# Altium schematic symbol library Schlib1.SchLib: 13 symbols
Pins are listed as number, name and electrical type; pins without a type are passive.

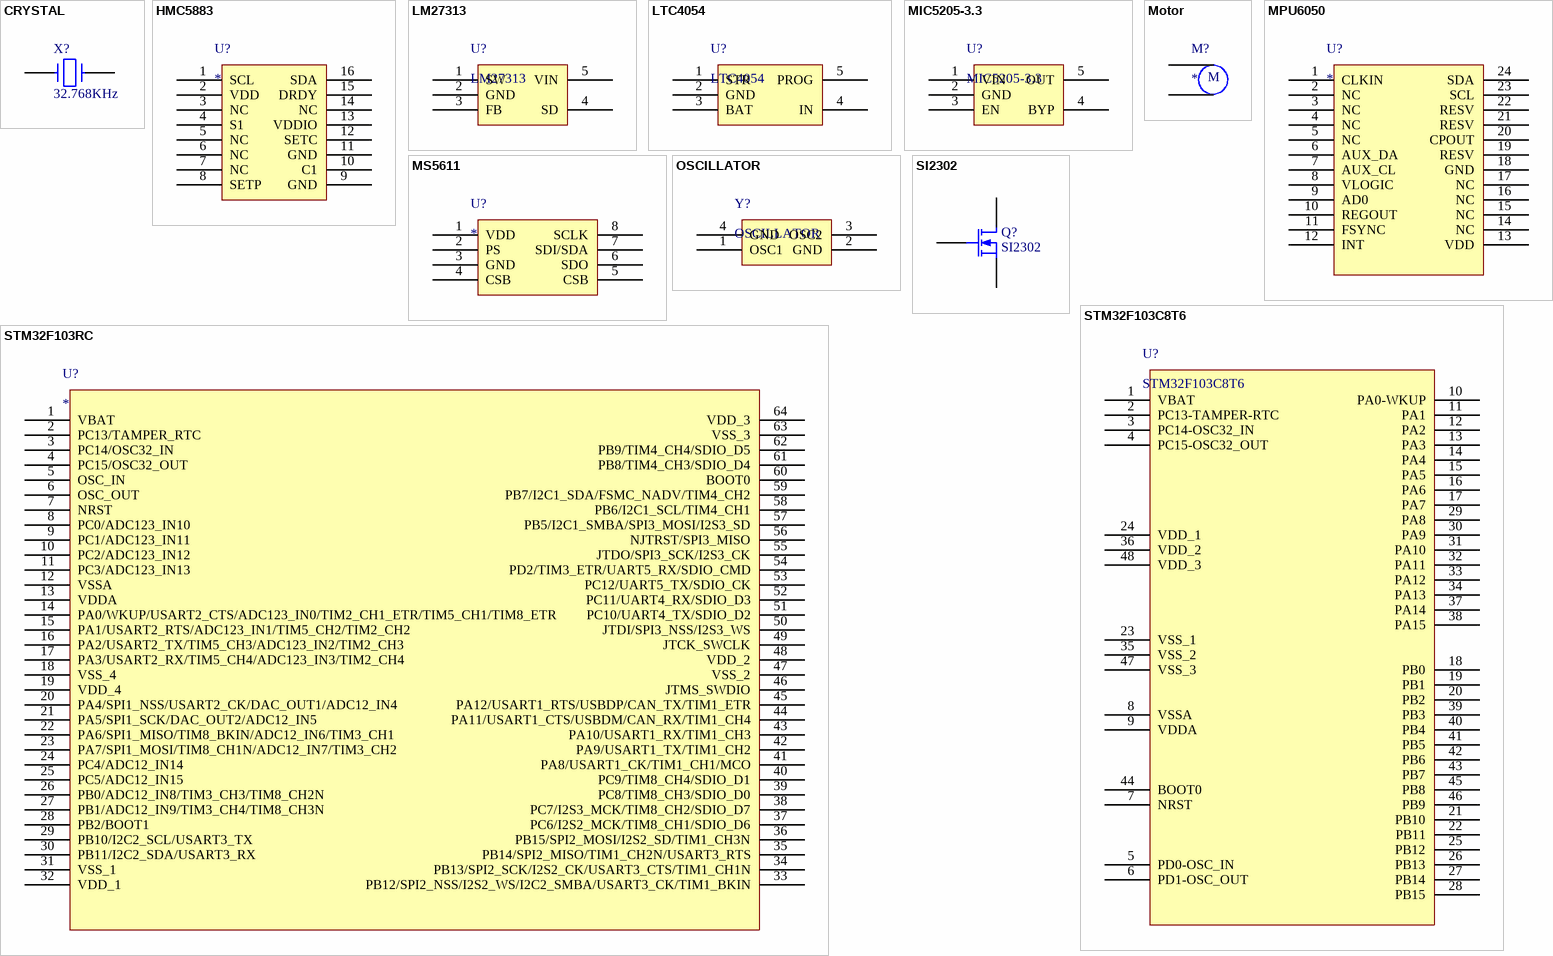
[diagram p0: symbols CRYSTAL to STM32F103RC]

## CRYSTAL
designator X?, comment 32.768KHz
Crystal
footprint 2X5MM
footprint XTAL_socket
pins: 1, 2
2 alternate drawings of the same symbol

## HMC5883
designator U?
pins: 1 SCL, 2 VDD, 3 NC, 4 S1, 5 NC, 6 NC, 7 NC, 8 SETP, 9 GND, 10 C1, 11 GND, 12 SETC, 13 VDDIO, 14 NC, 15 DRDY, 16 SDA

## LM27313
designator U?
pins: 1 SW, 2 GND, 3 FB, 4 SD, 5 VIN

## LTC4054
designator U?
pins: 1 STR, 2 GND, 3 BAT, 4 IN, 5 PROG

## MIC5205-3.3
designator U?
pins: 1 VIN, 2 GND, 3 EN, 4 BYP, 5 OUT

## Motor
designator M?
pins: 1, 2
text: M

## MPU6050
designator U?
pins: 1 CLKIN, 2 NC, 3 NC, 4 NC, 5 NC, 6 AUX_DA, 7 AUX_CL, 8 VLOGIC, 9 AD0, 10 REGOUT, 11 FSYNC, 12 INT, 13 VDD, 14 NC, 15 NC, 16 NC, 17 NC, 18 GND, 19 RESV, 20 CPOUT, 21 RESV, 22 RESV, 23 SCL, 24 SDA

## MS5611
designator U?
pins: 1 VDD, 2 PS, 3 GND, 4 CSB, 5 CSB, 6 SDO, 7 SDI/SDA, 8 SCLK

## OSCILLATOR
designator Y?
footprint OSCILLATOR-SMD3225
pins: 1 OSC1, 2 GND, 3 OSC2, 4 GND

## SI2302
designator Q?
N-Channel MOSFET; Published: 8-Jun-2000; LatestRevisionDate: 17-Jul-2002; LatestRevisionNote: Re-released for DXP Platform.; PackageVersion: 1995/1996; PackageReference: E3; Publisher: Altium Limited; PackageDescription: TO, Flat Index; 3 In-Line, Axial Leads; Body Dia. 4.6mm; Lead Dia. 0.5 mm (max)
footprint SOT-23
simulation model NMOS (MOSFET-N)
pins: 1 G, 2 S, 3 D

## STM32F103C8T6
designator U?
pins: 1 VBAT, 2 PC13-TAMPER-RTC, 3 PC14-OSC32_IN, 4 PC15-OSC32_OUT, 5 PD0-OSC_IN, 6 PD1-OSC_OUT, 7 NRST, 8 VSSA, 9 VDDA, 10 PA0-WKUP, 11 PA1, 12 PA2, 13 PA3, 14 PA4, 15 PA5, 16 PA6, 17 PA7, 18 PB0, 19 PB1, 20 PB2, 21 PB10, 22 PB11, 23 VSS_1, 24 VDD_1, 25 PB12, 26 PB13, 27 PB14, 28 PB15, 29 PA8, 30 PA9, 31 PA10, 32 PA11, 33 PA12, 34 PA13, 35 VSS_2, 36 VDD_2, 37 PA14, 38 PA15, 39 PB3, 40 PB4, 41 PB5, 42 PB6, 43 PB7, 44 BOOT0, 45 PB8, 46 PB9, 47 VSS_3, 48 VDD_3

## STM32F103RC
designator U?
pins: 1 VBAT, 2 PC13/TAMPER_RTC, 3 PC14/OSC32_IN, 4 PC15/OSC32_OUT, 5 OSC_IN, 6 OSC_OUT, 7 NRST, 8 PC0/ADC123_IN10, 9 PC1/ADC123_IN11, 10 PC2/ADC123_IN12, 11 PC3/ADC123_IN13, 12 VSSA, 13 VDDA, 14 PA0/WKUP/USART2_CTS/ADC123_IN0/TIM2_CH1_ETR/TIM5_CH1/TIM8_ETR, 15 PA1/USART2_RTS/ADC123_IN1/TIM5_CH2/TIM2_CH2, 16 PA2/USART2_TX/TIM5_CH3/ADC123_IN2/TIM2_CH3, 17 PA3/USART2_RX/TIM5_CH4/ADC123_IN3/TIM2_CH4, 18 VSS_4, 19 VDD_4, 20 PA4/SPI1_NSS/USART2_CK/DAC_OUT1/ADC12_IN4, 21 PA5/SPI1_SCK/DAC_OUT2/ADC12_IN5, 22 PA6/SPI1_MISO/TIM8_BKIN/ADC12_IN6/TIM3_CH1, 23 PA7/SPI1_MOSI/TIM8_CH1N/ADC12_IN7/TIM3_CH2, 24 PC4/ADC12_IN14, 25 PC5/ADC12_IN15, 26 PB0/ADC12_IN8/TIM3_CH3/TIM8_CH2N, 27 PB1/ADC12_IN9/TIM3_CH4/TIM8_CH3N, 28 PB2/BOOT1, 29 PB10/I2C2_SCL/USART3_TX, 30 PB11/I2C2_SDA/USART3_RX, 31 VSS_1, 32 VDD_1, 33 PB12/SPI2_NSS/I2S2_WS/I2C2_SMBA/USART3_CK/TIM1_BKIN, 34 PB13/SPI2_SCK/I2S2_CK/USART3_CTS/TIM1_CH1N, 35 PB14/SPI2_MISO/TIM1_CH2N/USART3_RTS, 36 PB15/SPI2_MOSI/I2S2_SD/TIM1_CH3N, 37 PC6/I2S2_MCK/TIM8_CH1/SDIO_D6, 38 PC7/I2S3_MCK/TIM8_CH2/SDIO_D7, 39 PC8/TIM8_CH3/SDIO_D0, 40 PC9/TIM8_CH4/SDIO_D1, 41 PA8/USART1_CK/TIM1_CH1/MCO, 42 PA9/USART1_TX/TIM1_CH2, 43 PA10/USART1_RX/TIM1_CH3, 44 PA11/USART1_CTS/USBDM/CAN_RX/TIM1_CH4, 45 PA12/USART1_RTS/USBDP/CAN_TX/TIM1_ETR, 46 JTMS_SWDIO, 47 VSS_2, 48 VDD_2, 49 JTCK_SWCLK, 50 JTDI/SPI3_NSS/I2S3_WS, 51 PC10/UART4_TX/SDIO_D2, 52 PC11/UART4_RX/SDIO_D3, 53 PC12/UART5_TX/SDIO_CK, 54 PD2/TIM3_ETR/UART5_RX/SDIO_CMD, 55 JTDO/SPI3_SCK/I2S3_CK, 56 NJTRST/SPI3_MISO, 57 PB5/I2C1_SMBA/SPI3_MOSI/I2S3_SD, 58 PB6/I2C1_SCL/TIM4_CH1, 59 PB7/I2C1_SDA/FSMC_NADV/TIM4_CH2, 60 BOOT0, 61 PB8/TIM4_CH3/SDIO_D4, 62 PB9/TIM4_CH4/SDIO_D5, 63 VSS_3, 64 VDD_3

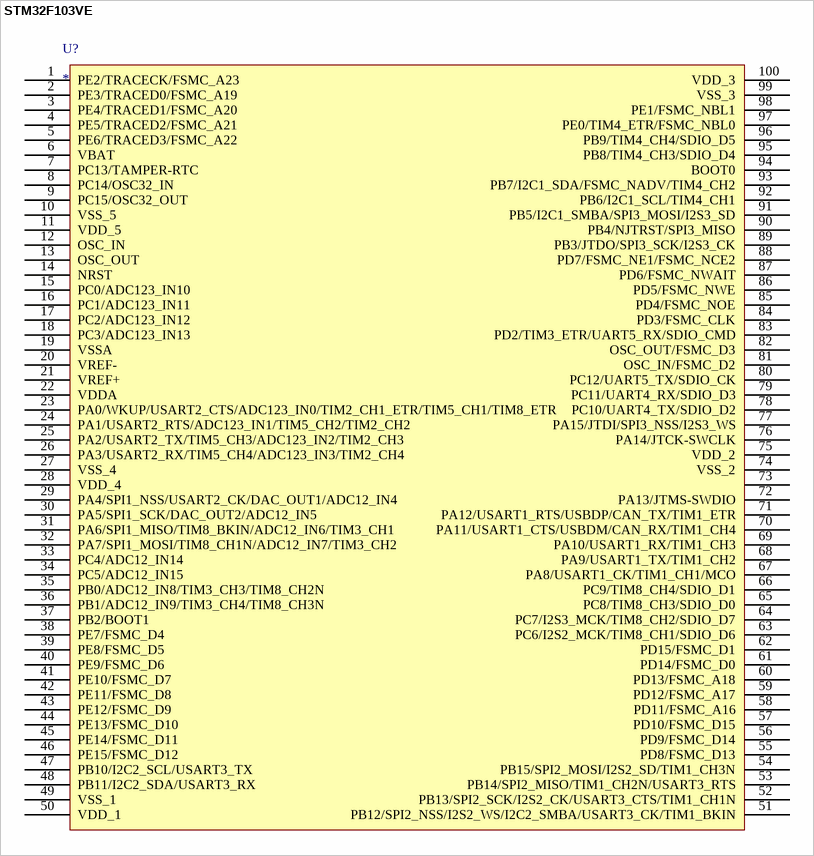
[diagram p1: symbol STM32F103VE]

## STM32F103VE
designator U?
pins: 1 PE2/TRACECK/FSMC_A23, 2 PE3/TRACED0/FSMC_A19, 3 PE4/TRACED1/FSMC_A20, 4 PE5/TRACED2/FSMC_A21, 5 PE6/TRACED3/FSMC_A22, 6 VBAT, 7 PC13/TAMPER-RTC, 8 PC14/OSC32_IN, 9 PC15/OSC32_OUT, 10 VSS_5, 11 VDD_5, 12 OSC_IN, 13 OSC_OUT, 14 NRST, 15 PC0/ADC123_IN10, 16 PC1/ADC123_IN11, 17 PC2/ADC123_IN12, 18 PC3/ADC123_IN13, 19 VSSA, 20 VREF-, 21 VREF+, 22 VDDA, 23 PA0/WKUP/USART2_CTS/ADC123_IN0/TIM2_CH1_ETR/TIM5_CH1/TIM8_ETR, 24 PA1/USART2_RTS/ADC123_IN1/TIM5_CH2/TIM2_CH2, 25 PA2/USART2_TX/TIM5_CH3/ADC123_IN2/TIM2_CH3, 26 PA3/USART2_RX/TIM5_CH4/ADC123_IN3/TIM2_CH4, 27 VSS_4, 28 VDD_4, 29 PA4/SPI1_NSS/USART2_CK/DAC_OUT1/ADC12_IN4, 30 PA5/SPI1_SCK/DAC_OUT2/ADC12_IN5, 31 PA6/SPI1_MISO/TIM8_BKIN/ADC12_IN6/TIM3_CH1, 32 PA7/SPI1_MOSI/TIM8_CH1N/ADC12_IN7/TIM3_CH2, 33 PC4/ADC12_IN14, 34 PC5/ADC12_IN15, 35 PB0/ADC12_IN8/TIM3_CH3/TIM8_CH2N, 36 PB1/ADC12_IN9/TIM3_CH4/TIM8_CH3N, 37 PB2/BOOT1, 38 PE7/FSMC_D4, 39 PE8/FSMC_D5, 40 PE9/FSMC_D6, 41 PE10/FSMC_D7, 42 PE11/FSMC_D8, 43 PE12/FSMC_D9, 44 PE13/FSMC_D10, 45 PE14/FSMC_D11, 46 PE15/FSMC_D12, 47 PB10/I2C2_SCL/USART3_TX, 48 PB11/I2C2_SDA/USART3_RX, 49 VSS_1, 50 VDD_1, 51 PB12/SPI2_NSS/I2S2_WS/I2C2_SMBA/USART3_CK/TIM1_BKIN, 52 PB13/SPI2_SCK/I2S2_CK/USART3_CTS/TIM1_CH1N, 53 PB14/SPI2_MISO/TIM1_CH2N/USART3_RTS, 54 PB15/SPI2_MOSI/I2S2_SD/TIM1_CH3N, 55 PD8/FSMC_D13, 56 PD9/FSMC_D14, 57 PD10/FSMC_D15, 58 PD11/FSMC_A16, 59 PD12/FSMC_A17, 60 PD13/FSMC_A18, 61 PD14/FSMC_D0, 62 PD15/FSMC_D1, 63 PC6/I2S2_MCK/TIM8_CH1/SDIO_D6, 64 PC7/I2S3_MCK/TIM8_CH2/SDIO_D7, 65 PC8/TIM8_CH3/SDIO_D0, 66 PC9/TIM8_CH4/SDIO_D1, 67 PA8/USART1_CK/TIM1_CH1/MCO, 68 PA9/USART1_TX/TIM1_CH2, 69 PA10/USART1_RX/TIM1_CH3, 70 PA11/USART1_CTS/USBDM/CAN_RX/TIM1_CH4, 71 PA12/USART1_RTS/USBDP/CAN_TX/TIM1_ETR, 72 PA13/JTMS-SWDIO, 73, 74 VSS_2, 75 VDD_2, 76 PA14/JTCK-SWCLK, 77 PA15/JTDI/SPI3_NSS/I2S3_WS, 78 PC10/UART4_TX/SDIO_D2, 79 PC11/UART4_RX/SDIO_D3, 80 PC12/UART5_TX/SDIO_CK, 81 OSC_IN/FSMC_D2, 82 OSC_OUT/FSMC_D3, 83 PD2/TIM3_ETR/UART5_RX/SDIO_CMD, 84 PD3/FSMC_CLK, 85 PD4/FSMC_NOE, 86 PD5/FSMC_NWE, 87 PD6/FSMC_NWAIT, 88 PD7/FSMC_NE1/FSMC_NCE2, 89 PB3/JTDO/SPI3_SCK/I2S3_CK, 90 PB4/NJTRST/SPI3_MISO, 91 PB5/I2C1_SMBA/SPI3_MOSI/I2S3_SD, 92 PB6/I2C1_SCL/TIM4_CH1, 93 PB7/I2C1_SDA/FSMC_NADV/TIM4_CH2, 94 BOOT0, 95 PB8/TIM4_CH3/SDIO_D4, 96 PB9/TIM4_CH4/SDIO_D5, 97 PE0/TIM4_ETR/FSMC_NBL0, 98 PE1/FSMC_NBL1, 99 VSS_3, 100 VDD_3